# EAGLE library part BMP180 (library Deegou_IC)
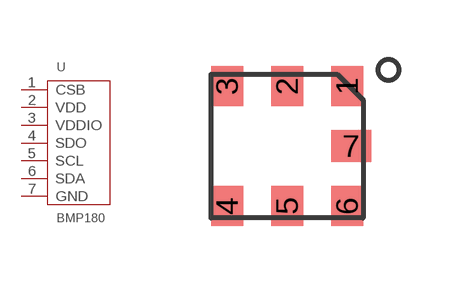
[diagram p58: symbol with the pads of BMP180; footprint BMP180]

Designator prefix -

## BMP180  [BMP180]
1  CSB
2  VDD
3  VDDIO
4  SDO
5  SCL
6  SDA
7  GND

## Footprint BMP180 (pad centres in mm)
smd 0.8 x 1: 1 1.5,1.5; 2 0,1.5; 3 -1.5,1.5; 4 -1.5,-1.5; 5 0,-1.5; 6 1.5,-1.5
smd 1 x 0.8: 7 1.6,0